# Altium schematic symbol library Conn,Jack,Banana,Thru,Right,Red.Schlib: 1 symbol
Pins are listed as number, name and electrical type; pins without a type are passive.

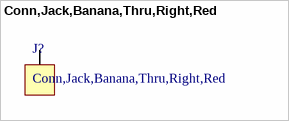
[diagram p0: symbol Conn,Jack,Banana,Thru,Right,Red]

## Conn,Jack,Banana,Thru,Right,Red
designator J?
Banana Jack Connector Standard Banana Solder Red
pins: 1 PIN